# EAGLE library part LAUNCHPAD (library StevenV1)
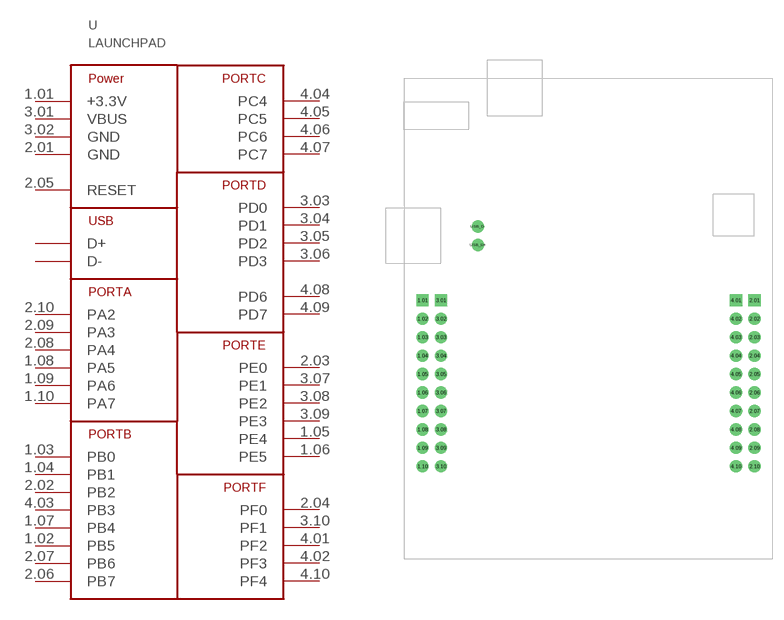
[diagram p7: symbol with the pads of LAUNCHPAD; footprint LAUNCHPAD]

Designator prefix -

## LAUNCHPAD  [LAUNCHPAD]
1.01  +3.3V
1.02  PB5
1.03  PB0
1.04  PB1
1.05  PE4
1.06  PE5
1.07  PB4
1.08  PA5
1.09  PA6
1.10  PA7
2.01  GND
2.02  PB2
2.03  PE0
2.04  PF0
2.05  RESET
2.06  PB7
2.07  PB6
2.08  PA4
2.09  PA3
2.10  PA2
3.01  VBUS
3.02  GND
3.03  PD0
3.04  PD1
3.05  PD2
3.06  PD3
3.07  PE1
3.08  PE2
3.09  PE3
3.10  PF1
4.01  PF2
4.02  PF3
4.03  PB3
4.04  PC4
4.05  PC5
4.06  PC6
4.07  PC7
4.08  PD6
4.09  PD7
4.10  PF4
USB_D+  D+
USB_D-  D-

## Footprint LAUNCHPAD (pad centres in mm)
drill 0.9 pad 1.676 square: 1.01 2.54,35.56; 2.01 48.26,35.56; 3.01 5.08,35.56; 4.01 45.72,35.56
drill 0.9 pad 1.676: 1.02 2.54,33.02; 1.03 2.54,30.48; 1.04 2.54,27.94; 1.05 2.54,25.4; 1.06 2.54,22.86; 1.07 2.54,20.32; 1.08 2.54,17.78; 1.09 2.54,15.24; 1.10 2.54,12.7; 2.02 48.26,33.02; 2.03 48.26,30.48; 2.04 48.26,27.94; 2.05 48.26,25.4; 2.06 48.26,22.86; 2.07 48.26,20.32; 2.08 48.26,17.78; 2.09 48.26,15.24; 2.10 48.26,12.7; 3.02 5.08,33.02; 3.03 5.08,30.48; 3.04 5.08,27.94; 3.05 5.08,25.4; 3.06 5.08,22.86; 3.07 5.08,20.32; 3.08 5.08,17.78; 3.09 5.08,15.24; 3.10 5.08,12.7; 4.02 45.72,33.02; 4.03 45.72,30.48; 4.04 45.72,27.94; 4.05 45.72,25.4; 4.06 45.72,22.86; 4.07 45.72,20.32; 4.08 45.72,17.78; 4.09 45.72,15.24; 4.10 45.72,12.7; USB_D+ 10.16,43.18; USB_D- 10.16,45.72